# EAGLE library part LIS3L02AS4 (library lis3l02as4)
www.st.com 3-axis-accelerometer
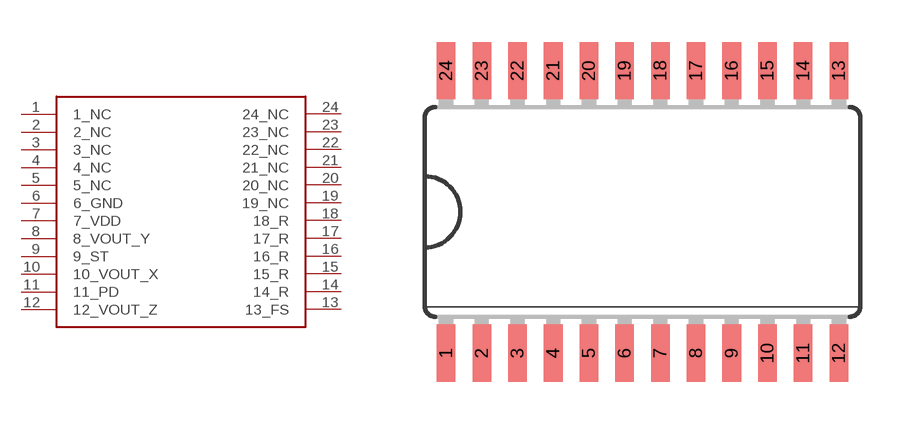
[diagram p0: symbol with the pads of SO-24; footprint SO-24]

Designator prefix -

## LIS3L02AS4  [SO-24]
1  1_NC
2  2_NC
3  3_NC
4  4_NC
5  5_NC
6  6_GND
7  7_VDD
8  8_VOUT_Y
9  9_ST
10  10_VOUT_X
11  11_PD
12  12_VOUT_Z
13  13_FS
14  14_R
15  15_R
16  16_R
17  17_R
18  18_R
19  19_NC
20  20_NC
21  21_NC
22  22_NC
23  23_NC
24  24_NC

## Footprint SO-24 (pad centres in mm)
smd 0.66 x 2.032: 1 -9.779,-4.013; 2 -8.509,-4.013; 3 -7.239,-4.013; 4 -5.969,-4.013; 5 -4.699,-4.013; 6 -3.429,-4.013; 7 -2.159,-4.013; 8 -0.889,-4.013; 9 0.381,-4.013; 10 1.651,-4.013; 11 2.921,-4.013; 12 4.191,-4.013; 13 4.191,6.045; 14 2.921,6.045; 15 1.651,6.045; 16 0.381,6.045; 17 -0.889,6.045; 18 -2.159,6.045; 19 -3.429,6.045; 20 -4.699,6.045; 21 -5.969,6.045; 22 -7.239,6.045; 23 -8.509,6.045; 24 -9.779,6.045